# Altium schematic symbol library LM2576.SchLib: 1 symbol
Pins are listed as number, name and electrical type; pins without a type are passive.

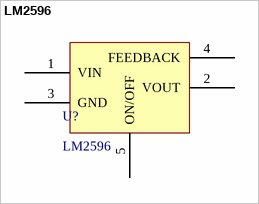
[diagram p0: symbol LM2596]

## LM2596
designator U?
footprint LM2576 (D2-PAK, 6-Pads, Body 7.93x8.63mm (max), IPC Medium Density)
pins: 1 VIN, 2 VOUT, 3 GND, 4 FEEDBACK, 5 ON/OFF